# EAGLE library part 85507-5001 (library 85507-5001)
Modular Connectors / Ethernet Connectors MDJCK 8/8 VT SHLD CAT 5 Source: Datasheet <https://componentsearchengine.com/Datasheets/1/85507-5001.pdf>
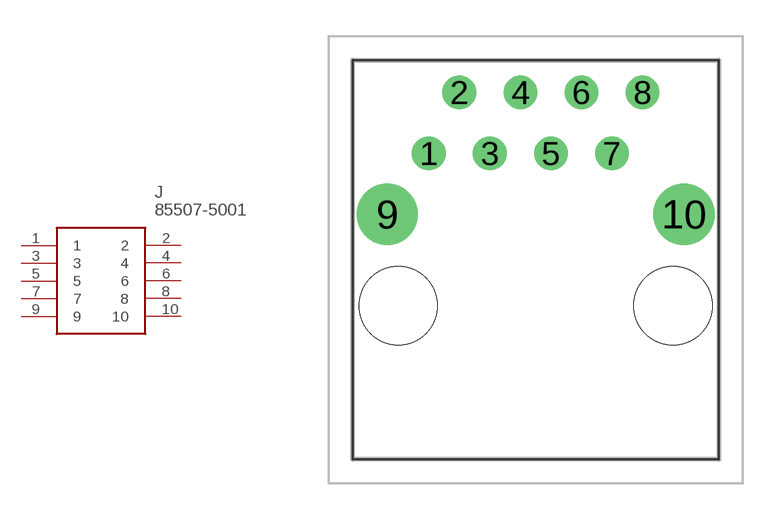
[diagram p0: symbol with the pads of 855075001; footprint 855075001]

Designator prefix J

## 85507-5001 (Description: Modular Connectors / Ethernet Connectors MDJCK 8/8 VT SHLD CAT 5; Height: 16.4mm; Manufacturer_Name: Molex; Manufacturer_Part_Number: 85507-5001; Mouser_Part_Number: 538-85507-5001; Mouser_Price-Stock: https://www.mouser.com/Search/Refine.aspx?Keyword=538-85507-5001)  [855075001]
1  1
2  2
3  3
4  4
5  5
6  6
7  7
8  8
9  9
10  10

## Footprint 855075001 (pad centres in mm)
85507-5001-2
drill 0.9 pad 1.4: 1 0,0.05; 2 1.27,2.59; 3 2.54,0.05; 4 3.81,2.59; 5 5.08,0.05; 6 6.35,2.59; 7 7.62,0.05; 8 8.89,2.59
drill 1.7 pad 2.55: 9 -1.73,-2.49; 10 10.62,-2.49
hole 3.25 at -1.27,-6.3
hole 3.25 at 10.16,-6.3